# EAGLE library part STKSIGBOT (library con-samtec-ips1)
Signal Connector, Bottom side of Board Modular Demo Stacking Connector
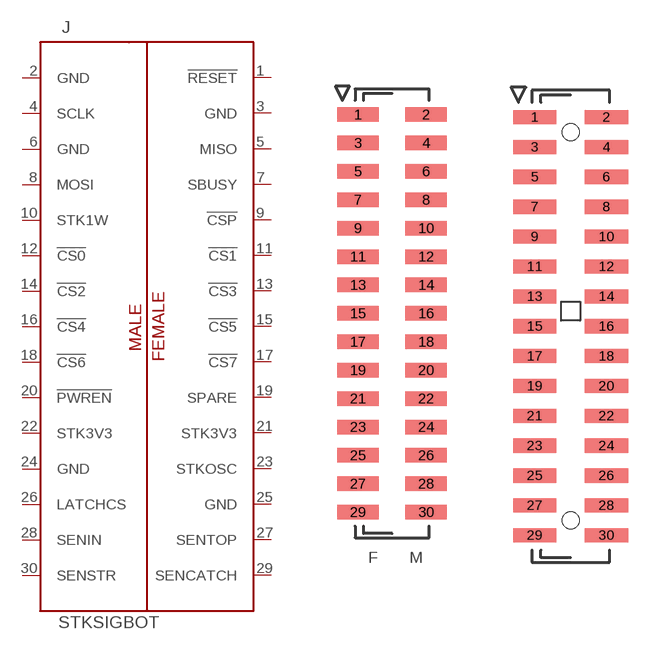
[diagram p20: symbol with the pads of LS2-115-02-F-D; footprints LS2-115-02-F-D, LS2-115-02-CUSTOM]

Designator prefix J

## STKSIGBOT  [LS2-115-02-F-D]
1  !RESET  pas
2  GND  pas
3  GND  pas
4  SCLK  pas
5  MISO  pas
6  GND  pas
7  SBUSY  pas
8  MOSI  pas
9  !CSP  pas
10  STK1W  pas
11  !CS1  pas
12  !CS0  pas
13  !CS3  pas
14  !CS2  pas
15  !CS5  pas
16  !CS4  pas
17  !CS7  pas
18  !CS6  pas
19  SPARE  pas
20  !PWREN  pas
21  STK3V3  pas
22  STK3V3  pas
23  STKOSC  pas
24  GND  pas
25  GND  pas
26  LATCHCS  pas
27  SENTOP  pas
28  SENIN  pas
29  SENCATCH  pas
30  SENSTR  pas

## STKSIGBOTCUSTOM  [LS2-115-02-CUSTOM]
Pads as for LS2-115-02-F-D

## STKSIGBOTCUST_NOSOLD  [LS2-115-02-CUSTOM_NOSOLD]
Pads as for LS2-115-02-F-D

## STKSIGBOTNOPASTE  [LS2-115-02-CUSTOMNOPASTE]
Pads as for LS2-115-02-F-D

## Footprint LS2-115-02-F-D (pad centres in mm)
Samtech LS2 2mm Hemaphoraditic header 2mm pitch, 2 x 15 = 30 pin
smd 2.92 x 1.02: 1 -2.4,14; 2 2.4,14; 3 -2.4,12; 4 2.4,12; 5 -2.4,10; 6 2.4,10; 7 -2.4,8; 8 2.4,8; 9 -2.4,6; 10 2.4,6; 11 -2.4,4; 12 2.4,4; 13 -2.4,2; 14 2.4,2; 15 -2.4,0; 16 2.4,0; 17 -2.4,-2; 18 2.4,-2; 19 -2.4,-4; 20 2.4,-4; 21 -2.4,-6; 22 2.4,-6; 23 -2.4,-8; 24 2.4,-8; 25 -2.4,-10; 26 2.4,-10; 27 -2.4,-12; 28 2.4,-12; 29 -2.4,-14; 30 2.4,-14

## Footprint LS2-115-02-CUSTOM (pad centres in mm)
smd 2.9 x 0.95: 1 -2.4,14; 2 2.4,14; 3 -2.4,12; 4 2.4,12; 5 -2.4,10; 6 2.4,10; 7 -2.4,8; 8 2.4,8; 9 -2.4,6; 10 2.4,6; 11 -2.4,4; 12 2.4,4; 13 -2.4,2; 14 2.4,2; 15 -2.4,0; 16 2.4,0; 17 -2.4,-2; 18 2.4,-2; 19 -2.4,-4; 20 2.4,-4; 21 -2.4,-6; 22 2.4,-6; 23 -2.4,-8; 24 2.4,-8; 25 -2.4,-10; 26 2.4,-10; 27 -2.4,-12; 28 2.4,-12; 29 -2.4,-14; 30 2.4,-14
hole 1.143 at 0,13.005
hole 1.143 at 0,-13.005

## Footprint LS2-115-02-CUSTOM_NOSOLD (pad centres in mm)
smd 2.9 x 0.95: 1 -2.4,14; 2 2.4,14; 3 -2.4,12; 4 2.4,12; 5 -2.4,10; 6 2.4,10; 7 -2.4,8; 8 2.4,8; 9 -2.4,6; 10 2.4,6; 11 -2.4,4; 12 2.4,4; 13 -2.4,2; 14 2.4,2; 15 -2.4,0; 16 2.4,0; 17 -2.4,-2; 18 2.4,-2; 19 -2.4,-4; 20 2.4,-4; 21 -2.4,-6; 22 2.4,-6; 23 -2.4,-8; 24 2.4,-8; 25 -2.4,-10; 26 2.4,-10; 27 -2.4,-12; 28 2.4,-12; 29 -2.4,-14; 30 2.4,-14
hole 1.143 at 0,13.005
hole 1.143 at 0,-13.005

## Footprint LS2-115-02-CUSTOMNOPASTE (pad centres in mm)
smd 2.9 x 0.95: 1 -2.4,14; 2 2.4,14; 3 -2.4,12; 4 2.4,12; 5 -2.4,10; 6 2.4,10; 7 -2.4,8; 8 2.4,8; 9 -2.4,6; 10 2.4,6; 11 -2.4,4; 12 2.4,4; 13 -2.4,2; 14 2.4,2; 15 -2.4,0; 16 2.4,0; 17 -2.4,-2; 18 2.4,-2; 19 -2.4,-4; 20 2.4,-4; 21 -2.4,-6; 22 2.4,-6; 23 -2.4,-8; 24 2.4,-8; 25 -2.4,-10; 26 2.4,-10; 27 -2.4,-12; 28 2.4,-12; 29 -2.4,-14; 30 2.4,-14
hole 1.143 at 0,13.005
hole 1.143 at 0,-13.005